# Altium schematic symbol library Molex46112-0803.SchLib: 1 symbol
Pins are listed as number, name and electrical type; pins without a type are passive.

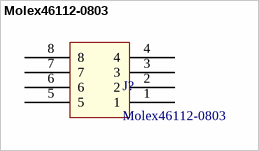
[diagram p0: symbol Molex46112-0803]

## Molex46112-0803
designator J?
12.00mm Pitch, EXTreme LPHPower Receptacle Header, Vertical, 8 Power Contact, Select Gold (Au) Plating, with BMI Guides; ComponentLink1Description: Molex Website; ComponentLink1URL: https://www.molex.com/molex/products/datasheet.jsp?part=active/0461120803_PCB_RECEPTACLES.xml
footprint Molex46112-0803
pins: 1, 2, 3, 4, 5, 6, 7, 8